# Altium schematic symbol library 插座.SchLib: 2 symbols
Pins are listed as number, name and electrical type; pins without a type are passive.

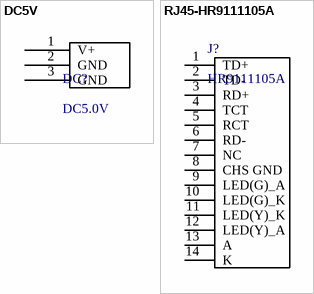
[diagram p0: symbols DC5V to RJ45-HR9111105A]

## DC5V
designator DC?, comment DC5.0V
footprint DC5V (DC 5.0V)
pins: 1 V+, 2 GND, 3 GND

## RJ45-HR9111105A
designator J?, comment HR9111105A
footprint RJ45-HR9111105A (网口插座)
pins: 1 TD+, 2 TD-, 3 RD+, 4 TCT, 5 RCT, 6 RD-, 7 NC, 8 CHS GND, 9 LED(G)_A, 10 LED(G)_K, 11 LED(Y)_K, 12 LED(Y)_A, 13 A, 14 K